# Altium footprint library PcbLib MP V1.PcbLib: 22 footprints (part 2 of 2)
Each footprint in its own frame and in the unit in brackets; x right, y up, seen from the top. Pads: shape width x height; smd on the part's side, far side on the other; paste and mask are expansions set on the pad; w line width, h text height; cw(c..) or ccw(c..) is an arc to the next point about the centre after c.
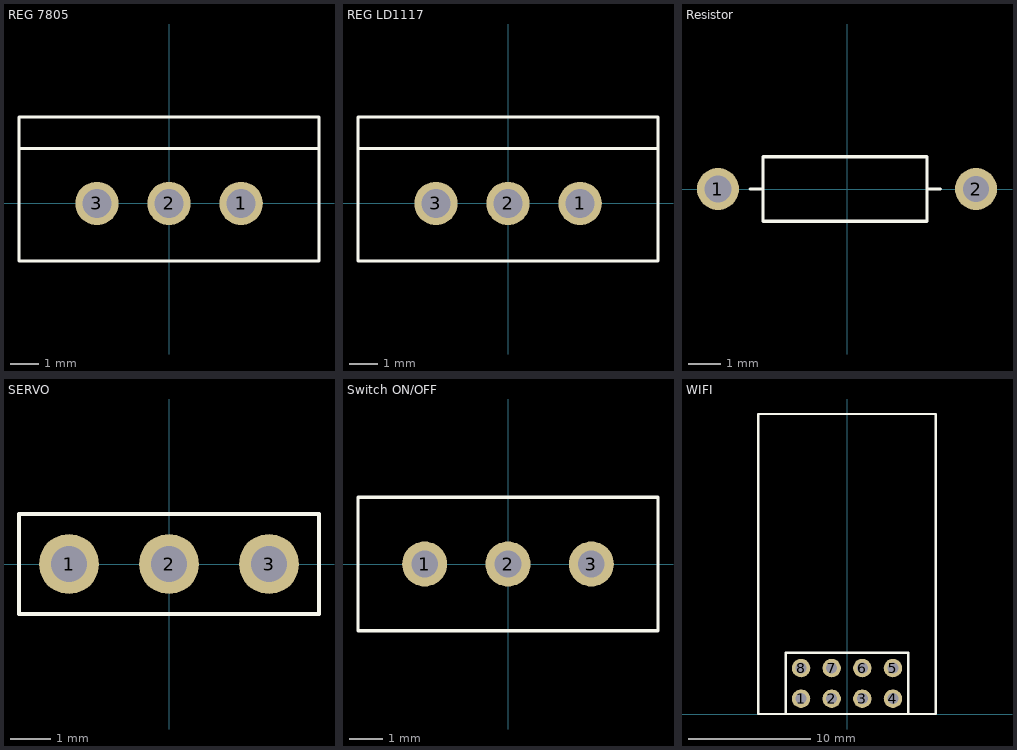
[diagram p1: the footprints below, top view; thin cyan lines are the x and y axes]

## REG 7805 [mm] "REGULADOR +5V"
pads (3):
  round 1.5 hole 1: 1(2.5,0) 2(0,0) 3(-2.5,0)
Top Overlay:
  lines w0.1: -5.2,1.9 5.2,1.9 ; -5.2,-2 -5.2,3 5.2,3 5.2,-2 -5.2,-2
3D body: height 11.84, standoff 3, extent -5.199,-1.999 5.199,1.899
3D body: height 18.48, standoff 3, extent -5.199,1.901 5.199,2.999

## REG LD1117 [mm] "REGULADOR +3.3V"
pads (3):
  round 1.5 hole 1: 1(2.5,0) 2(0,0) 3(-2.5,0)
Top Overlay:
  lines w0.1: -5.2,1.9 5.2,1.9 ; -5.2,-2 -5.2,3 5.2,3 5.2,-2 -5.2,-2
3D body: height 11.84, standoff 3, extent -5.199,-1.999 5.199,1.899
3D body: height 18.48, standoff 3, extent -5.199,1.901 5.199,2.999

## Resistor [mm]
pads (2):
  round 1.3 hole 0.85: 1(-4,0)
  round 1.3 hole 0.8: 2(4,0)
Top Overlay:
  lines w0.1: -3,0 -2.6,0 ; 2.5,0 2.9,0 ; -2.6,-1 -2.6,1 2.48,1 2.48,0 2.48,-1 -2.6,-1
3D body: height 2.3, standoff 0.3, extent -2.599,-1 2.479,1

## SERVO [mm]
pads (3):
  round 1.5 hole 0.9: 1(-2.5,0) 2(0,0) 3(2.5,0)
Top Overlay:
  lines w0.1: -3.75,-1.25 3.75,-1.25 3.75,1.25 -3.75,1.25 -3.75,-1.25
3D body: height 16.4, standoff 0, extent -3.75,-1.25 3.75,1.25

## Switch ON/OFF [mm] "Switch ON/OFF"
pads (3):
  round 1.35 hole 0.8: 1(-2.5,0) 2(0,0) 3(2.5,0)
Top Overlay:
  lines w0.1: -4.5,-2 4.5,-2 4.5,2 -4.5,2 -4.5,-2
3D body: height 4, standoff 0, extent -4.5,-2 4.5,2
3D body: height 6.5, standoff 3.5, extent -0.748,-0.749 0.75,0.75

## WIFI [mm]
pads (8):
  round 1.5 hole 0.9: 1(-3.75,1.25) 2(-1.25,1.25) 3(1.25,1.25) 4(3.75,1.25) 5(3.75,3.75) 6(1.25,3.75) 7(-1.25,3.75) 8(-3.75,3.75)
Top Overlay:
  lines w0.2: -5,0 -5,5 5,5 5,0 ; -7.25,0 -7.25,24.5 7.25,24.5 7.25,0 -7.25,0
3D body: height 11, standoff 0, extent -4.999,0.001 4.999,4.999
3D body: height 14, standoff 11, extent -7.35,-0.1 7.35,24.6